# EAGLE library part CP2103 (library silicon-labs)
USB TO UART BRIDGE
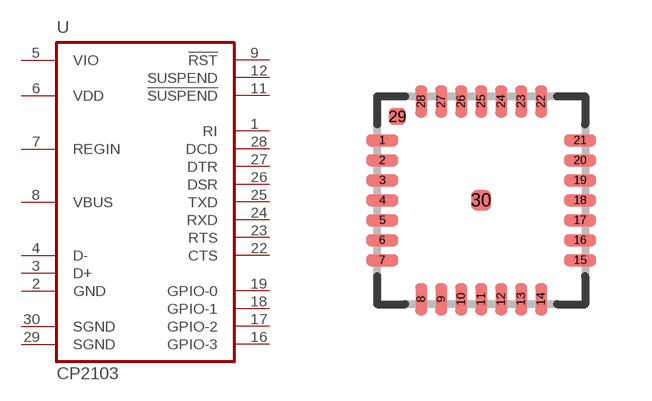
[diagram p5: symbol with the pads of QFN28; footprint QFN28]

Designator prefix U

## CP2103  [QFN28]
1  RI
2  GND  pwr
3  D+
4  D-
5  VIO  pwr
6  VDD  pwr
7  REGIN  pwr
8  VBUS  in
9  !RST!
11  !SUSPEND!  out
12  SUSPEND  out
16  GPIO-3
17  GPIO-2
18  GPIO-1
19  GPIO-0
22  CTS
23  RTS  out
24  RXD
25  TXD  out
26  DSR
27  DTR  out
28  DCD
29  SGND  pwr
30  SGND  pwr

## Footprint QFN28 (pad centres in mm)
QFN28 5x5 mm body
smd 0.8 x 0.3: 1 -2.475,1.5; 2 -2.475,1; 3 -2.475,0.5; 4 -2.475,0; 5 -2.475,-0.5; 6 -2.475,-1; 7 -2.475,-1.5; 15 2.475,-1.5; 16 2.475,-1; 17 2.475,-0.5; 18 2.475,0; 19 2.475,0.5; 20 2.475,1; 21 2.475,1.5
smd 0.3 x 0.8: 8 -1.5,-2.475; 9 -1,-2.475; 10 -0.5,-2.475; 11 0,-2.475; 12 0.5,-2.475; 13 1,-2.475; 14 1.5,-2.475; 22 1.5,2.475; 23 1,2.475; 24 0.5,2.475; 25 0,2.475; 26 -0.5,2.475; 27 -1,2.475; 28 -1.5,2.475
smd 0.435 x 0.435: 29 -2.1,2.1
smd 0.5 x 0.5: 30 0,0